# Altium integrated library Microchip Power Mgt CPU-System Supervisor.IntLib: 412 symbols (part 10 of 10)
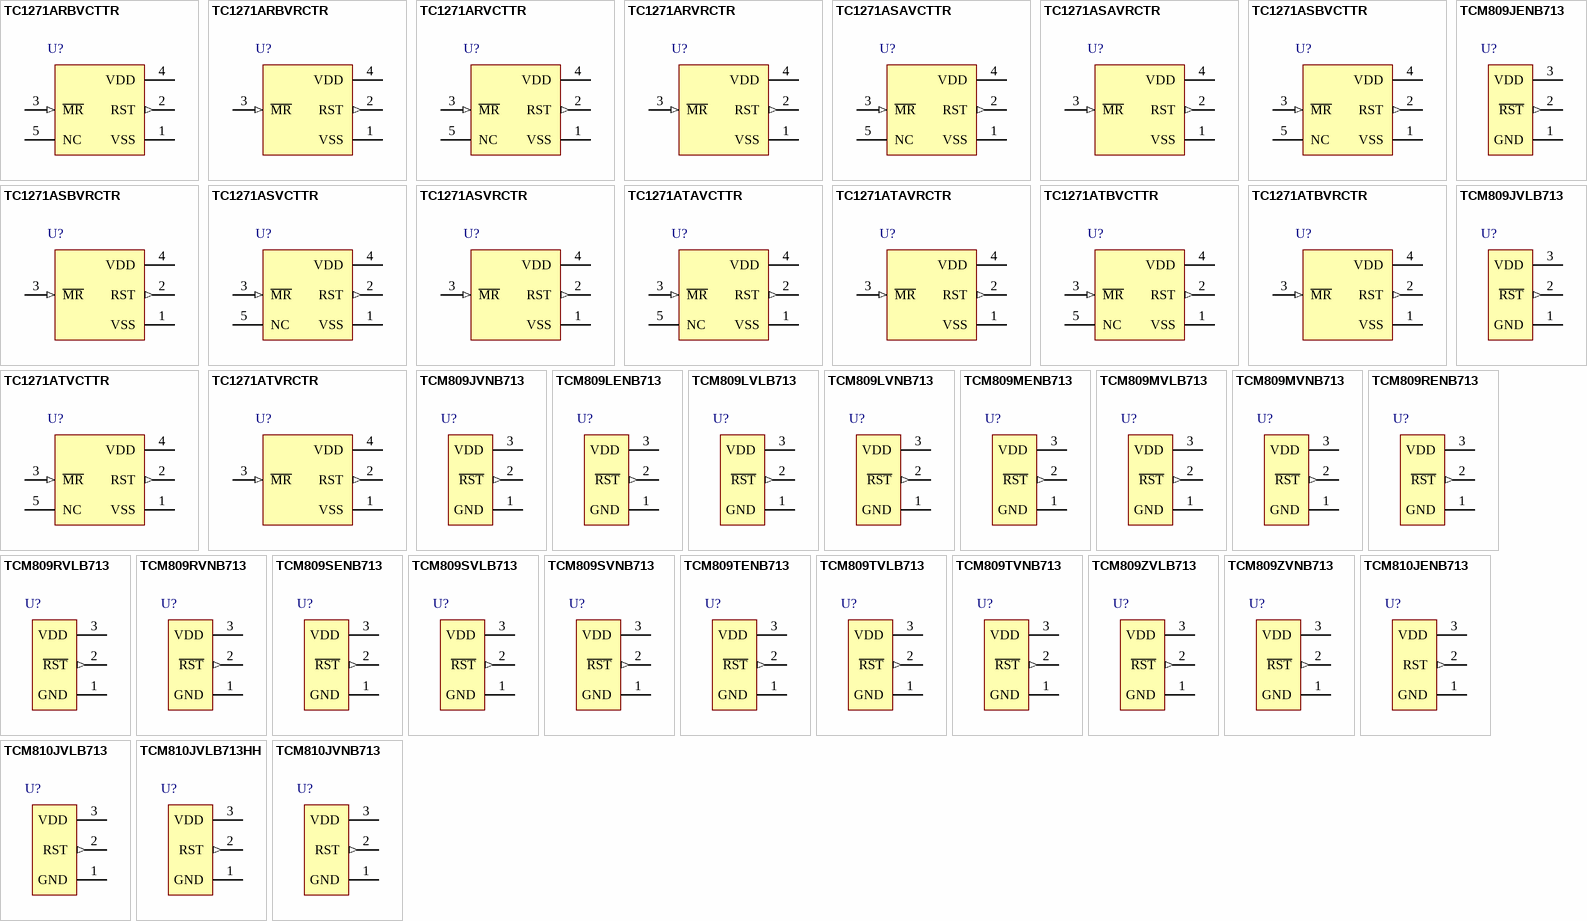
[diagram p19: symbols TC1271ARBVCTTR to TCM810JVNB713]

## TCM809SENB713
designator U?
3-Pin Microcontroller Reset Monitors, 3-Pin SOT-23, Extended Temperature; Published: 29-Jan-2009; DatasheetVersion: revD, Mar-2005; PackageVersion: revBB, Aug-2009; PackageReference: SOT-23-NB3; Publisher: Altium Limited; PackageDescription: 3-Lead Plastic Small Outline Transistor (NB) [SOT-23]; Supplier 1: Digi-Key; Supplier Part Number 1: TCM809SENB713TR-ND; Supplier 2: Digi-Key; Supplier Part Number 2: TCM809SENB713CT-ND; Supplier 3: Farnell; Supplier Part Number 3: 9762760; Code_IPC: SOT23-3; ComponentLink1Description: Datasheet; ComponentLink1URL: http://ww1.microchip.com/downloads/en/DeviceDoc/21661d.pdf; ComponentLink2Description: Packaging Specification; ComponentLink2URL: http://www.microchip.com/stellent/groups/techpub_sg/documents/packagingspec/en012702.pdf; ComponentLink3Description: Microchip.com Home; ComponentLink3URL: http://www.microchip.com/
footprint SOT-23-NB3_N (SOT23, 3-Leads, Body 2.9x1.3mm, Pitch 0.95mm, Lead Span 2.4mm, IPC Medium Density)
footprint SOT-23-NB3_L (SOT23, 3-Leads, Body 2.9x1.3mm, Pitch 0.95mm, Lead Span 2.4mm, IPC High Density)
footprint SOT-23-NB3_M (SOT23, 3-Leads, Body 2.9x1.3mm, Pitch 0.95mm, Lead Span 2.4mm, IPC Low Density)
pins: 1 GND (power), 2 ~{RST} (out), 3 VDD (power)

## TCM809SVLB713
designator U?
3-Pin Microcontroller Reset Monitors, 3-Pin SC-70; Published: 29-Jan-2009; DatasheetVersion: revD, Mar-2005; PackageVersion: revBB, Aug-2009; PackageReference: SC70-LB3; Publisher: Altium Limited; PackageDescription: 3-Lead Plastic Small Outline Transistor (LB) [SC70]; Supplier 1: Digi-Key; Supplier Part Number 1: TCM809SVLB713TR-ND; Supplier 2: Digi-Key; Supplier Part Number 2: TCM809SVLB713CT-ND; Supplier 3: Digi-Key; Supplier Part Number 3: TCM809SVLB713DKR-ND; ComponentLink1Description: Datasheet; ComponentLink1URL: http://ww1.microchip.com/downloads/en/DeviceDoc/21661d.pdf; ComponentLink2Description: Packaging Specification; ComponentLink2URL: http://www.microchip.com/stellent/groups/techpub_sg/documents/packagingspec/en012702.pdf; ComponentLink3Description: Microchip.com Home; ComponentLink3URL: http://www.microchip.com/
footprint SC70-LB3_N (SOT323, 3-Leads, Body 2.0x1.3mm, Pitch 0.65mm, Lead Span 2.1mm, IPC Medium Density)
footprint SC70-LB3_L (SOT323, 3-Leads, Body 2.0x1.3mm, Pitch 0.65mm, Lead Span 2.1mm, IPC High Density)
footprint SC70-LB3_M (SOT323, 3-Leads, Body 2.0x1.3mm, Pitch 0.65mm, Lead Span 2.1mm, IPC Low Density)
pins: 1 GND (power), 2 ~{RST} (out), 3 VDD (power)

## TCM809SVNB713
designator U?
3-Pin Microcontroller Reset Monitors, 3-Pin SOT-23; Published: 29-Jan-2009; DatasheetVersion: revD, Mar-2005; PackageVersion: revBB, Aug-2009; PackageReference: SOT-23-NB3; Publisher: Altium Limited; PackageDescription: 3-Lead Plastic Small Outline Transistor (NB) [SOT-23]; Supplier 1: Digi-Key; Supplier Part Number 1: TCM809SVNB713TR-ND; Supplier 2: Digi-Key; Supplier Part Number 2: TCM809SVNB713CT-ND; Supplier 3: Digi-Key; Supplier Part Number 3: TCM809SVNB713DKR-ND; Code_IPC: SOT23-3; ComponentLink1Description: Datasheet; ComponentLink1URL: http://ww1.microchip.com/downloads/en/DeviceDoc/21661d.pdf; ComponentLink2Description: Packaging Specification; ComponentLink2URL: http://www.microchip.com/stellent/groups/techpub_sg/documents/packagingspec/en012702.pdf; ComponentLink3Description: Microchip.com Home; ComponentLink3URL: http://www.microchip.com/
footprint SOT-23-NB3_N (SOT23, 3-Leads, Body 2.9x1.3mm, Pitch 0.95mm, Lead Span 2.4mm, IPC Medium Density)
footprint SOT-23-NB3_L (SOT23, 3-Leads, Body 2.9x1.3mm, Pitch 0.95mm, Lead Span 2.4mm, IPC High Density)
footprint SOT-23-NB3_M (SOT23, 3-Leads, Body 2.9x1.3mm, Pitch 0.95mm, Lead Span 2.4mm, IPC Low Density)
pins: 1 GND (power), 2 ~{RST} (out), 3 VDD (power)

## TCM809TENB713
designator U?
3-Pin Microcontroller Reset Monitors, 3-Pin SOT-23, Extended Temperature; Published: 29-Jan-2009; DatasheetVersion: revD, Mar-2005; PackageVersion: revBB, Aug-2009; PackageReference: SOT-23-NB3; Publisher: Altium Limited; PackageDescription: 3-Lead Plastic Small Outline Transistor (NB) [SOT-23]; Supplier 1: Digi-Key; Supplier Part Number 1: TCM809TENB713TR-ND; Supplier 2: Digi-Key; Supplier Part Number 2: TCM809TENB713CT-ND; Supplier 3: Farnell; Supplier Part Number 3: 9762779; Code_IPC: SOT23-3; ComponentLink1Description: Datasheet; ComponentLink1URL: http://ww1.microchip.com/downloads/en/DeviceDoc/21661d.pdf; ComponentLink2Description: Packaging Specification; ComponentLink2URL: http://www.microchip.com/stellent/groups/techpub_sg/documents/packagingspec/en012702.pdf; ComponentLink3Description: Microchip.com Home; ComponentLink3URL: http://www.microchip.com/
footprint SOT-23-NB3_N (SOT23, 3-Leads, Body 2.9x1.3mm, Pitch 0.95mm, Lead Span 2.4mm, IPC Medium Density)
footprint SOT-23-NB3_L (SOT23, 3-Leads, Body 2.9x1.3mm, Pitch 0.95mm, Lead Span 2.4mm, IPC High Density)
footprint SOT-23-NB3_M (SOT23, 3-Leads, Body 2.9x1.3mm, Pitch 0.95mm, Lead Span 2.4mm, IPC Low Density)
pins: 1 GND (power), 2 ~{RST} (out), 3 VDD (power)

## TCM809TVLB713
designator U?
3-Pin Microcontroller Reset Monitors, 3-Pin SC-70; Published: 29-Jan-2009; DatasheetVersion: revD, Mar-2005; PackageVersion: revBB, Aug-2009; PackageReference: SC70-LB3; Publisher: Altium Limited; PackageDescription: 3-Lead Plastic Small Outline Transistor (LB) [SC70]; Supplier 1: Digi-Key; Supplier Part Number 1: TCM809TVLB713TR-ND; Supplier 2: Digi-Key; Supplier Part Number 2: TCM809TVLB713CT-ND; Supplier 3: Digi-Key; Supplier Part Number 3: TCM809TVLB713DKR-ND; ComponentLink1Description: Datasheet; ComponentLink1URL: http://ww1.microchip.com/downloads/en/DeviceDoc/21661d.pdf; ComponentLink2Description: Packaging Specification; ComponentLink2URL: http://www.microchip.com/stellent/groups/techpub_sg/documents/packagingspec/en012702.pdf; ComponentLink3Description: Microchip.com Home; ComponentLink3URL: http://www.microchip.com/
footprint SC70-LB3_N (SOT323, 3-Leads, Body 2.0x1.3mm, Pitch 0.65mm, Lead Span 2.1mm, IPC Medium Density)
footprint SC70-LB3_L (SOT323, 3-Leads, Body 2.0x1.3mm, Pitch 0.65mm, Lead Span 2.1mm, IPC High Density)
footprint SC70-LB3_M (SOT323, 3-Leads, Body 2.0x1.3mm, Pitch 0.65mm, Lead Span 2.1mm, IPC Low Density)
pins: 1 GND (power), 2 ~{RST} (out), 3 VDD (power)

## TCM809TVNB713
designator U?
3-Pin Microcontroller Reset Monitors, 3-Pin SOT-23; Published: 29-Jan-2009; DatasheetVersion: revD, Mar-2005; PackageVersion: revBB, Aug-2009; PackageReference: SOT-23-NB3; Publisher: Altium Limited; PackageDescription: 3-Lead Plastic Small Outline Transistor (NB) [SOT-23]; Supplier 1: Digi-Key; Supplier Part Number 1: TCM809TVNB713TR-ND; Supplier 2: Digi-Key; Supplier Part Number 2: TCM809TVNB713CT-ND; Supplier 3: Digi-Key; Supplier Part Number 3: TCM809TVNB713DKR-ND; Code_IPC: SOT23-3; ComponentLink1Description: Datasheet; ComponentLink1URL: http://ww1.microchip.com/downloads/en/DeviceDoc/21661d.pdf; ComponentLink2Description: Packaging Specification; ComponentLink2URL: http://www.microchip.com/stellent/groups/techpub_sg/documents/packagingspec/en012702.pdf; ComponentLink3Description: Microchip.com Home; ComponentLink3URL: http://www.microchip.com/
footprint SOT-23-NB3_N (SOT23, 3-Leads, Body 2.9x1.3mm, Pitch 0.95mm, Lead Span 2.4mm, IPC Medium Density)
footprint SOT-23-NB3_L (SOT23, 3-Leads, Body 2.9x1.3mm, Pitch 0.95mm, Lead Span 2.4mm, IPC High Density)
footprint SOT-23-NB3_M (SOT23, 3-Leads, Body 2.9x1.3mm, Pitch 0.95mm, Lead Span 2.4mm, IPC Low Density)
pins: 1 GND (power), 2 ~{RST} (out), 3 VDD (power)

## TCM809ZVLB713
designator U?
3-Pin Microcontroller Reset Monitors, 3-Pin SC-70; Published: 29-Jan-2009; DatasheetVersion: revD, Mar-2005; PackageVersion: revBB, Aug-2009; PackageReference: SC70-LB3; Publisher: Altium Limited; PackageDescription: 3-Lead Plastic Small Outline Transistor (LB) [SC70]; Supplier 1: Digi-Key; Supplier Part Number 1: TCM809ZVLB713TR-ND; Supplier 2: Digi-Key; Supplier Part Number 2: TCM809ZVLB713CT-ND; Supplier 3: Digi-Key; Supplier Part Number 3: TCM809ZVLB713DKR-ND; Supplier 4: Farnell; Supplier Part Number 4: 9762787; ComponentLink1Description: Datasheet; ComponentLink1URL: http://ww1.microchip.com/downloads/en/DeviceDoc/21661d.pdf; ComponentLink2Description: Packaging Specification; ComponentLink2URL: http://www.microchip.com/stellent/groups/techpub_sg/documents/packagingspec/en012702.pdf; ComponentLink3Description: Microchip.com Home; ComponentLink3URL: http://www.microchip.com/
footprint SC70-LB3_N (SOT323, 3-Leads, Body 2.0x1.3mm, Pitch 0.65mm, Lead Span 2.1mm, IPC Medium Density)
footprint SC70-LB3_L (SOT323, 3-Leads, Body 2.0x1.3mm, Pitch 0.65mm, Lead Span 2.1mm, IPC High Density)
footprint SC70-LB3_M (SOT323, 3-Leads, Body 2.0x1.3mm, Pitch 0.65mm, Lead Span 2.1mm, IPC Low Density)
pins: 1 GND (power), 2 ~{RST} (out), 3 VDD (power)

## TCM809ZVNB713
designator U?
3-Pin Microcontroller Reset Monitors, 3-Pin SOT-23; Published: 29-Jan-2009; DatasheetVersion: revD, Mar-2005; PackageVersion: revBB, Aug-2009; PackageReference: SOT-23-NB3; Publisher: Altium Limited; PackageDescription: 3-Lead Plastic Small Outline Transistor (NB) [SOT-23]; Supplier 1: Digi-Key; Supplier Part Number 1: TCM809ZVNB713TR-ND; Supplier 2: Digi-Key; Supplier Part Number 2: TCM809ZVNB713CT-ND; Supplier 3: Digi-Key; Supplier Part Number 3: TCM809ZVNB713DKR-ND; Code_IPC: SOT23-3; ComponentLink1Description: Datasheet; ComponentLink1URL: http://ww1.microchip.com/downloads/en/DeviceDoc/21661d.pdf; ComponentLink2Description: Packaging Specification; ComponentLink2URL: http://www.microchip.com/stellent/groups/techpub_sg/documents/packagingspec/en012702.pdf; ComponentLink3Description: Microchip.com Home; ComponentLink3URL: http://www.microchip.com/
footprint SOT-23-NB3_N (SOT23, 3-Leads, Body 2.9x1.3mm, Pitch 0.95mm, Lead Span 2.4mm, IPC Medium Density)
footprint SOT-23-NB3_L (SOT23, 3-Leads, Body 2.9x1.3mm, Pitch 0.95mm, Lead Span 2.4mm, IPC High Density)
footprint SOT-23-NB3_M (SOT23, 3-Leads, Body 2.9x1.3mm, Pitch 0.95mm, Lead Span 2.4mm, IPC Low Density)
pins: 1 GND (power), 2 ~{RST} (out), 3 VDD (power)

## TCM810JENB713
designator U?
3-Pin Microcontroller Reset Monitors, 3-Pin SOT-23, Extended Temperature; Published: 29-Jan-2009; DatasheetVersion: revD, Mar-2005; PackageVersion: revBB, Aug-2009; PackageReference: SOT-23-NB3; Publisher: Altium Limited; PackageDescription: 3-Lead Plastic Small Outline Transistor (NB) [SOT-23]; Supplier 1: Digi-Key; Supplier Part Number 1: TCM810JENB713-ND; Code_IPC: SOT23-3; ComponentLink1Description: Datasheet; ComponentLink1URL: http://ww1.microchip.com/downloads/en/DeviceDoc/21661d.pdf; ComponentLink2Description: Packaging Specification; ComponentLink2URL: http://www.microchip.com/stellent/groups/techpub_sg/documents/packagingspec/en012702.pdf; ComponentLink3Description: Microchip.com Home; ComponentLink3URL: http://www.microchip.com/
footprint SOT-23-NB3_N (SOT23, 3-Leads, Body 2.9x1.3mm, Pitch 0.95mm, Lead Span 2.4mm, IPC Medium Density)
footprint SOT-23-NB3_L (SOT23, 3-Leads, Body 2.9x1.3mm, Pitch 0.95mm, Lead Span 2.4mm, IPC High Density)
footprint SOT-23-NB3_M (SOT23, 3-Leads, Body 2.9x1.3mm, Pitch 0.95mm, Lead Span 2.4mm, IPC Low Density)
pins: 1 GND (power), 2 RST (out), 3 VDD (power)

## TCM810JVLB713
designator U?
3-Pin Microcontroller Reset Monitors, 3-Pin SC-70; Published: 29-Jan-2009; DatasheetVersion: revD, Mar-2005; PackageVersion: revBB, Aug-2009; PackageReference: SC70-LB3; Publisher: Altium Limited; PackageDescription: 3-Lead Plastic Small Outline Transistor (LB) [SC70]; Supplier 1: Digi-Key; Supplier Part Number 1: TCM810JVLB713-ND; ComponentLink1Description: Datasheet; ComponentLink1URL: http://ww1.microchip.com/downloads/en/DeviceDoc/21661d.pdf; ComponentLink2Description: Packaging Specification; ComponentLink2URL: http://www.microchip.com/stellent/groups/techpub_sg/documents/packagingspec/en012702.pdf; ComponentLink3Description: Microchip.com Home; ComponentLink3URL: http://www.microchip.com/
footprint SC70-LB3_N (SOT323, 3-Leads, Body 2.0x1.3mm, Pitch 0.65mm, Lead Span 2.1mm, IPC Medium Density)
footprint SC70-LB3_L (SOT323, 3-Leads, Body 2.0x1.3mm, Pitch 0.65mm, Lead Span 2.1mm, IPC High Density)
footprint SC70-LB3_M (SOT323, 3-Leads, Body 2.0x1.3mm, Pitch 0.65mm, Lead Span 2.1mm, IPC Low Density)
pins: 1 GND (power), 2 RST (out), 3 VDD (power)

## TCM810JVLB713HH
designator U?
3-Pin Microcontroller Reset Monitors, 3-Pin SC-70; Published: 29-Jan-2009; DatasheetVersion: revD, Mar-2005; PackageVersion: revBB, Aug-2009; PackageReference: SC70-LB3; Publisher: Altium Limited; PackageDescription: 3-Lead Plastic Small Outline Transistor (LB) [SC70]; ComponentLink1Description: Datasheet; ComponentLink1URL: http://ww1.microchip.com/downloads/en/DeviceDoc/21661d.pdf; ComponentLink2Description: Packaging Specification; ComponentLink2URL: http://www.microchip.com/stellent/groups/techpub_sg/documents/packagingspec/en012702.pdf; ComponentLink3Description: Microchip.com Home; ComponentLink3URL: http://www.microchip.com/
footprint SC70-LB3_N (SOT323, 3-Leads, Body 2.0x1.3mm, Pitch 0.65mm, Lead Span 2.1mm, IPC Medium Density)
footprint SC70-LB3_L (SOT323, 3-Leads, Body 2.0x1.3mm, Pitch 0.65mm, Lead Span 2.1mm, IPC High Density)
footprint SC70-LB3_M (SOT323, 3-Leads, Body 2.0x1.3mm, Pitch 0.65mm, Lead Span 2.1mm, IPC Low Density)
pins: 1 GND (power), 2 RST (out), 3 VDD (power)

## TCM810JVNB713
designator U?
3-Pin Microcontroller Reset Monitors, 3-Pin SOT-23; Published: 29-Jan-2009; DatasheetVersion: revD, Mar-2005; PackageVersion: revBB, Aug-2009; PackageReference: SOT-23-NB3; Publisher: Altium Limited; PackageDescription: 3-Lead Plastic Small Outline Transistor (NB) [SOT-23]; Supplier 1: Digi-Key; Supplier Part Number 1: TCM810JVNB713TR-ND; Supplier 2: Digi-Key; Supplier Part Number 2: TCM810JVNB713CT-ND; Supplier 3: Digi-Key; Supplier Part Number 3: TCM810JVNB713DKR-ND; Code_IPC: SOT23-3; ComponentLink1Description: Datasheet; ComponentLink1URL: http://ww1.microchip.com/downloads/en/DeviceDoc/21661d.pdf; ComponentLink2Description: Packaging Specification; ComponentLink2URL: http://www.microchip.com/stellent/groups/techpub_sg/documents/packagingspec/en012702.pdf; ComponentLink3Description: Microchip.com Home; ComponentLink3URL: http://www.microchip.com/
footprint SOT-23-NB3_N (SOT23, 3-Leads, Body 2.9x1.3mm, Pitch 0.95mm, Lead Span 2.4mm, IPC Medium Density)
footprint SOT-23-NB3_L (SOT23, 3-Leads, Body 2.9x1.3mm, Pitch 0.95mm, Lead Span 2.4mm, IPC High Density)
footprint SOT-23-NB3_M (SOT23, 3-Leads, Body 2.9x1.3mm, Pitch 0.95mm, Lead Span 2.4mm, IPC Low Density)
pins: 1 GND (power), 2 RST (out), 3 VDD (power)

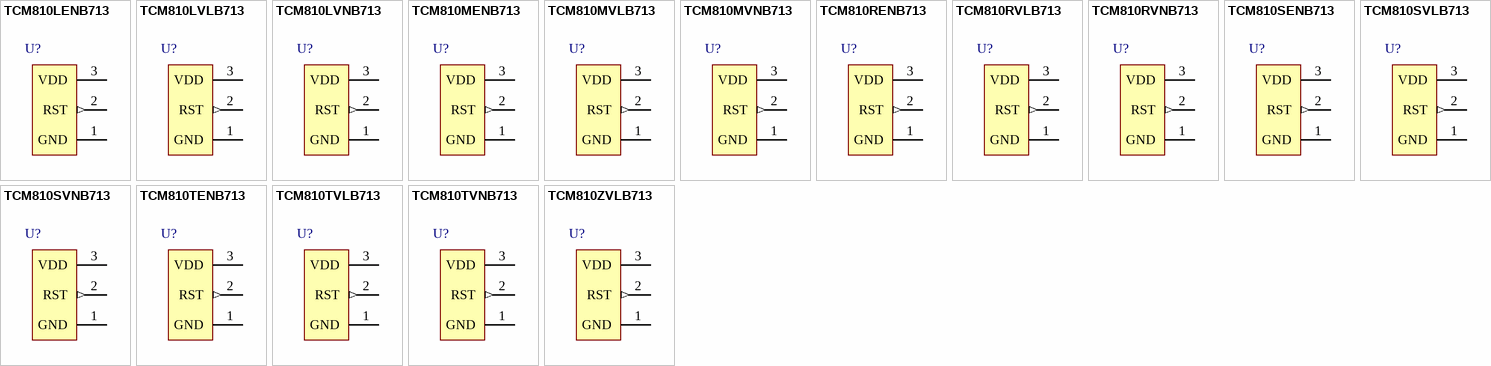
[diagram p10: symbols TCM810LENB713 to TCM810ZVLB713]

## TCM810LENB713
designator U?
3-Pin Microcontroller Reset Monitors, 3-Pin SOT-23, Extended Temperature; Published: 29-Jan-2009; DatasheetVersion: revD, Mar-2005; PackageVersion: revBB, Aug-2009; PackageReference: SOT-23-NB3; Publisher: Altium Limited; PackageDescription: 3-Lead Plastic Small Outline Transistor (NB) [SOT-23]; Supplier 1: Digi-Key; Supplier Part Number 1: TCM810LENB713TR-ND; Supplier 2: Digi-Key; Supplier Part Number 2: TCM810LENB713CT-ND; Supplier 3: Digi-Key; Supplier Part Number 3: TCM810LENB713DKR-ND; Code_IPC: SOT23-3; ComponentLink1Description: Datasheet; ComponentLink1URL: http://ww1.microchip.com/downloads/en/DeviceDoc/21661d.pdf; ComponentLink2Description: Packaging Specification; ComponentLink2URL: http://www.microchip.com/stellent/groups/techpub_sg/documents/packagingspec/en012702.pdf; ComponentLink3Description: Microchip.com Home; ComponentLink3URL: http://www.microchip.com/
footprint SOT-23-NB3_N (SOT23, 3-Leads, Body 2.9x1.3mm, Pitch 0.95mm, Lead Span 2.4mm, IPC Medium Density)
footprint SOT-23-NB3_L (SOT23, 3-Leads, Body 2.9x1.3mm, Pitch 0.95mm, Lead Span 2.4mm, IPC High Density)
footprint SOT-23-NB3_M (SOT23, 3-Leads, Body 2.9x1.3mm, Pitch 0.95mm, Lead Span 2.4mm, IPC Low Density)
pins: 1 GND (power), 2 RST (out), 3 VDD (power)

## TCM810LVLB713
designator U?
3-Pin Microcontroller Reset Monitors, 3-Pin SC-70; Published: 29-Jan-2009; DatasheetVersion: revD, Mar-2005; PackageVersion: revBB, Aug-2009; PackageReference: SC70-LB3; Publisher: Altium Limited; PackageDescription: 3-Lead Plastic Small Outline Transistor (LB) [SC70]; Supplier 1: Digi-Key; Supplier Part Number 1: TCM810LVLB713TR-ND; Supplier 2: Digi-Key; Supplier Part Number 2: TCM810LVLB713CT-ND; Supplier 3: Digi-Key; Supplier Part Number 3: TCM810LVLB713DKR-ND; ComponentLink1Description: Datasheet; ComponentLink1URL: http://ww1.microchip.com/downloads/en/DeviceDoc/21661d.pdf; ComponentLink2Description: Packaging Specification; ComponentLink2URL: http://www.microchip.com/stellent/groups/techpub_sg/documents/packagingspec/en012702.pdf; ComponentLink3Description: Microchip.com Home; ComponentLink3URL: http://www.microchip.com/
footprint SC70-LB3_N (SOT323, 3-Leads, Body 2.0x1.3mm, Pitch 0.65mm, Lead Span 2.1mm, IPC Medium Density)
footprint SC70-LB3_L (SOT323, 3-Leads, Body 2.0x1.3mm, Pitch 0.65mm, Lead Span 2.1mm, IPC High Density)
footprint SC70-LB3_M (SOT323, 3-Leads, Body 2.0x1.3mm, Pitch 0.65mm, Lead Span 2.1mm, IPC Low Density)
pins: 1 GND (power), 2 RST (out), 3 VDD (power)

## TCM810LVNB713
designator U?
3-Pin Microcontroller Reset Monitors, 3-Pin SOT-23; Published: 29-Jan-2009; DatasheetVersion: revD, Mar-2005; PackageVersion: revBB, Aug-2009; PackageReference: SOT-23-NB3; Publisher: Altium Limited; PackageDescription: 3-Lead Plastic Small Outline Transistor (NB) [SOT-23]; Supplier 1: Digi-Key; Supplier Part Number 1: TCM810LVNB713TR-ND; Supplier 2: Digi-Key; Supplier Part Number 2: TCM810LVNB713CT-ND; Supplier 3: Digi-Key; Supplier Part Number 3: TCM810LVNB713DKR-ND; Code_IPC: SOT23-3; ComponentLink1Description: Datasheet; ComponentLink1URL: http://ww1.microchip.com/downloads/en/DeviceDoc/21661d.pdf; ComponentLink2Description: Packaging Specification; ComponentLink2URL: http://www.microchip.com/stellent/groups/techpub_sg/documents/packagingspec/en012702.pdf; ComponentLink3Description: Microchip.com Home; ComponentLink3URL: http://www.microchip.com/
footprint SOT-23-NB3_N (SOT23, 3-Leads, Body 2.9x1.3mm, Pitch 0.95mm, Lead Span 2.4mm, IPC Medium Density)
footprint SOT-23-NB3_L (SOT23, 3-Leads, Body 2.9x1.3mm, Pitch 0.95mm, Lead Span 2.4mm, IPC High Density)
footprint SOT-23-NB3_M (SOT23, 3-Leads, Body 2.9x1.3mm, Pitch 0.95mm, Lead Span 2.4mm, IPC Low Density)
pins: 1 GND (power), 2 RST (out), 3 VDD (power)

## TCM810MENB713
designator U?
3-Pin Microcontroller Reset Monitors, 3-Pin SOT-23, Extended Temperature; Published: 29-Jan-2009; DatasheetVersion: revD, Mar-2005; PackageVersion: revBB, Aug-2009; PackageReference: SOT-23-NB3; Publisher: Altium Limited; PackageDescription: 3-Lead Plastic Small Outline Transistor (NB) [SOT-23]; Supplier 1: Digi-Key; Supplier Part Number 1: TCM810MENB713TR-ND; Supplier 2: Digi-Key; Supplier Part Number 2: TCM810MENB713CT-ND; Code_IPC: SOT23-3; ComponentLink1Description: Datasheet; ComponentLink1URL: http://ww1.microchip.com/downloads/en/DeviceDoc/21661d.pdf; ComponentLink2Description: Packaging Specification; ComponentLink2URL: http://www.microchip.com/stellent/groups/techpub_sg/documents/packagingspec/en012702.pdf; ComponentLink3Description: Microchip.com Home; ComponentLink3URL: http://www.microchip.com/
footprint SOT-23-NB3_N (SOT23, 3-Leads, Body 2.9x1.3mm, Pitch 0.95mm, Lead Span 2.4mm, IPC Medium Density)
footprint SOT-23-NB3_L (SOT23, 3-Leads, Body 2.9x1.3mm, Pitch 0.95mm, Lead Span 2.4mm, IPC High Density)
footprint SOT-23-NB3_M (SOT23, 3-Leads, Body 2.9x1.3mm, Pitch 0.95mm, Lead Span 2.4mm, IPC Low Density)
pins: 1 GND (power), 2 RST (out), 3 VDD (power)

## TCM810MVLB713
designator U?
3-Pin Microcontroller Reset Monitors, 3-Pin SC-70; Published: 29-Jan-2009; DatasheetVersion: revD, Mar-2005; PackageVersion: revBB, Aug-2009; PackageReference: SC70-LB3; Publisher: Altium Limited; PackageDescription: 3-Lead Plastic Small Outline Transistor (LB) [SC70]; Supplier 1: Digi-Key; Supplier Part Number 1: TCM810MVLB713TR-ND; Supplier 2: Digi-Key; Supplier Part Number 2: TCM810MVLB713CT-ND; Supplier 3: Digi-Key; Supplier Part Number 3: TCM810MVLB713DKR-ND; ComponentLink1Description: Datasheet; ComponentLink1URL: http://ww1.microchip.com/downloads/en/DeviceDoc/21661d.pdf; ComponentLink2Description: Packaging Specification; ComponentLink2URL: http://www.microchip.com/stellent/groups/techpub_sg/documents/packagingspec/en012702.pdf; ComponentLink3Description: Microchip.com Home; ComponentLink3URL: http://www.microchip.com/
footprint SC70-LB3_N (SOT323, 3-Leads, Body 2.0x1.3mm, Pitch 0.65mm, Lead Span 2.1mm, IPC Medium Density)
footprint SC70-LB3_L (SOT323, 3-Leads, Body 2.0x1.3mm, Pitch 0.65mm, Lead Span 2.1mm, IPC High Density)
footprint SC70-LB3_M (SOT323, 3-Leads, Body 2.0x1.3mm, Pitch 0.65mm, Lead Span 2.1mm, IPC Low Density)
pins: 1 GND (power), 2 RST (out), 3 VDD (power)

## TCM810MVNB713
designator U?
3-Pin Microcontroller Reset Monitors, 3-Pin SOT-23; Published: 29-Jan-2009; DatasheetVersion: revD, Mar-2005; PackageVersion: revBB, Aug-2009; PackageReference: SOT-23-NB3; Publisher: Altium Limited; PackageDescription: 3-Lead Plastic Small Outline Transistor (NB) [SOT-23]; Supplier 1: Digi-Key; Supplier Part Number 1: TCM810MVNB713TR-ND; Supplier 2: Digi-Key; Supplier Part Number 2: TCM810MVNB713CT-ND; Supplier 3: Digi-Key; Supplier Part Number 3: TCM810MVNB713DKR-ND; Code_IPC: SOT23-3; ComponentLink1Description: Datasheet; ComponentLink1URL: http://ww1.microchip.com/downloads/en/DeviceDoc/21661d.pdf; ComponentLink2Description: Packaging Specification; ComponentLink2URL: http://www.microchip.com/stellent/groups/techpub_sg/documents/packagingspec/en012702.pdf; ComponentLink3Description: Microchip.com Home; ComponentLink3URL: http://www.microchip.com/
footprint SOT-23-NB3_N (SOT23, 3-Leads, Body 2.9x1.3mm, Pitch 0.95mm, Lead Span 2.4mm, IPC Medium Density)
footprint SOT-23-NB3_L (SOT23, 3-Leads, Body 2.9x1.3mm, Pitch 0.95mm, Lead Span 2.4mm, IPC High Density)
footprint SOT-23-NB3_M (SOT23, 3-Leads, Body 2.9x1.3mm, Pitch 0.95mm, Lead Span 2.4mm, IPC Low Density)
pins: 1 GND (power), 2 RST (out), 3 VDD (power)

## TCM810RENB713
designator U?
3-Pin Microcontroller Reset Monitors, 3-Pin SOT-23, Extended Temperature; Published: 29-Jan-2009; DatasheetVersion: revD, Mar-2005; PackageVersion: revBB, Aug-2009; PackageReference: SOT-23-NB3; Publisher: Altium Limited; PackageDescription: 3-Lead Plastic Small Outline Transistor (NB) [SOT-23]; Supplier 1: Digi-Key; Supplier Part Number 1: TCM810RENB713TR-ND; Supplier 2: Digi-Key; Supplier Part Number 2: TCM810RENB713CT-ND; Supplier 3: Digi-Key; Supplier Part Number 3: TCM810RENB713DKR-ND; Code_IPC: SOT23-3; ComponentLink1Description: Datasheet; ComponentLink1URL: http://ww1.microchip.com/downloads/en/DeviceDoc/21661d.pdf; ComponentLink2Description: Packaging Specification; ComponentLink2URL: http://www.microchip.com/stellent/groups/techpub_sg/documents/packagingspec/en012702.pdf; ComponentLink3Description: Microchip.com Home; ComponentLink3URL: http://www.microchip.com/
footprint SOT-23-NB3_N (SOT23, 3-Leads, Body 2.9x1.3mm, Pitch 0.95mm, Lead Span 2.4mm, IPC Medium Density)
footprint SOT-23-NB3_L (SOT23, 3-Leads, Body 2.9x1.3mm, Pitch 0.95mm, Lead Span 2.4mm, IPC High Density)
footprint SOT-23-NB3_M (SOT23, 3-Leads, Body 2.9x1.3mm, Pitch 0.95mm, Lead Span 2.4mm, IPC Low Density)
pins: 1 GND (power), 2 RST (out), 3 VDD (power)

## TCM810RVLB713
designator U?
3-Pin Microcontroller Reset Monitors, 3-Pin SC-70; Published: 29-Jan-2009; DatasheetVersion: revD, Mar-2005; PackageVersion: revBB, Aug-2009; PackageReference: SC70-LB3; Publisher: Altium Limited; PackageDescription: 3-Lead Plastic Small Outline Transistor (LB) [SC70]; Supplier 1: Digi-Key; Supplier Part Number 1: TCM810RVLB713TR-ND; Supplier 2: Digi-Key; Supplier Part Number 2: TCM810RVLB713CT-ND; Supplier 3: Digi-Key; Supplier Part Number 3: TCM810RVLB713DKR-ND; ComponentLink1Description: Datasheet; ComponentLink1URL: http://ww1.microchip.com/downloads/en/DeviceDoc/21661d.pdf; ComponentLink2Description: Packaging Specification; ComponentLink2URL: http://www.microchip.com/stellent/groups/techpub_sg/documents/packagingspec/en012702.pdf; ComponentLink3Description: Microchip.com Home; ComponentLink3URL: http://www.microchip.com/
footprint SC70-LB3_N (SOT323, 3-Leads, Body 2.0x1.3mm, Pitch 0.65mm, Lead Span 2.1mm, IPC Medium Density)
footprint SC70-LB3_L (SOT323, 3-Leads, Body 2.0x1.3mm, Pitch 0.65mm, Lead Span 2.1mm, IPC High Density)
footprint SC70-LB3_M (SOT323, 3-Leads, Body 2.0x1.3mm, Pitch 0.65mm, Lead Span 2.1mm, IPC Low Density)
pins: 1 GND (power), 2 RST (out), 3 VDD (power)

## TCM810RVNB713
designator U?
3-Pin Microcontroller Reset Monitors, 3-Pin SOT-23; Published: 29-Jan-2009; DatasheetVersion: revD, Mar-2005; PackageVersion: revBB, Aug-2009; PackageReference: SOT-23-NB3; Publisher: Altium Limited; PackageDescription: 3-Lead Plastic Small Outline Transistor (NB) [SOT-23]; Supplier 1: Digi-Key; Supplier Part Number 1: TCM810RVNB713TR-ND; Supplier 2: Digi-Key; Supplier Part Number 2: TCM810RVNB713CT-ND; Supplier 3: Digi-Key; Supplier Part Number 3: TCM810RVNB713DKR-ND; Code_IPC: SOT23-3; ComponentLink1Description: Datasheet; ComponentLink1URL: http://ww1.microchip.com/downloads/en/DeviceDoc/21661d.pdf; ComponentLink2Description: Packaging Specification; ComponentLink2URL: http://www.microchip.com/stellent/groups/techpub_sg/documents/packagingspec/en012702.pdf; ComponentLink3Description: Microchip.com Home; ComponentLink3URL: http://www.microchip.com/
footprint SOT-23-NB3_N (SOT23, 3-Leads, Body 2.9x1.3mm, Pitch 0.95mm, Lead Span 2.4mm, IPC Medium Density)
footprint SOT-23-NB3_L (SOT23, 3-Leads, Body 2.9x1.3mm, Pitch 0.95mm, Lead Span 2.4mm, IPC High Density)
footprint SOT-23-NB3_M (SOT23, 3-Leads, Body 2.9x1.3mm, Pitch 0.95mm, Lead Span 2.4mm, IPC Low Density)
pins: 1 GND (power), 2 RST (out), 3 VDD (power)

## TCM810SENB713
designator U?
3-Pin Microcontroller Reset Monitors, 3-Pin SOT-23, Extended Temperature; Published: 29-Jan-2009; DatasheetVersion: revD, Mar-2005; PackageVersion: revBB, Aug-2009; PackageReference: SOT-23-NB3; Publisher: Altium Limited; PackageDescription: 3-Lead Plastic Small Outline Transistor (NB) [SOT-23]; Supplier 1: Digi-Key; Supplier Part Number 1: TCM810SENB713TR-ND; Supplier 2: Digi-Key; Supplier Part Number 2: TCM810SENB713CT-ND; Supplier 3: Farnell; Supplier Part Number 3: 1261520; Code_IPC: SOT23-3; ComponentLink1Description: Datasheet; ComponentLink1URL: http://ww1.microchip.com/downloads/en/DeviceDoc/21661d.pdf; ComponentLink2Description: Packaging Specification; ComponentLink2URL: http://www.microchip.com/stellent/groups/techpub_sg/documents/packagingspec/en012702.pdf; ComponentLink3Description: Microchip.com Home; ComponentLink3URL: http://www.microchip.com/
footprint SOT-23-NB3_N (SOT23, 3-Leads, Body 2.9x1.3mm, Pitch 0.95mm, Lead Span 2.4mm, IPC Medium Density)
footprint SOT-23-NB3_L (SOT23, 3-Leads, Body 2.9x1.3mm, Pitch 0.95mm, Lead Span 2.4mm, IPC High Density)
footprint SOT-23-NB3_M (SOT23, 3-Leads, Body 2.9x1.3mm, Pitch 0.95mm, Lead Span 2.4mm, IPC Low Density)
pins: 1 GND (power), 2 RST (out), 3 VDD (power)

## TCM810SVLB713
designator U?
3-Pin Microcontroller Reset Monitors, 3-Pin SC-70; Published: 29-Jan-2009; DatasheetVersion: revD, Mar-2005; PackageVersion: revBB, Aug-2009; PackageReference: SC70-LB3; Publisher: Altium Limited; PackageDescription: 3-Lead Plastic Small Outline Transistor (LB) [SC70]; Supplier 1: Digi-Key; Supplier Part Number 1: TCM810SVLB713TR-ND; Supplier 2: Digi-Key; Supplier Part Number 2: TCM810SVLB713CT-ND; Supplier 3: Digi-Key; Supplier Part Number 3: TCM810SVLB713DKR-ND; ComponentLink1Description: Datasheet; ComponentLink1URL: http://ww1.microchip.com/downloads/en/DeviceDoc/21661d.pdf; ComponentLink2Description: Packaging Specification; ComponentLink2URL: http://www.microchip.com/stellent/groups/techpub_sg/documents/packagingspec/en012702.pdf; ComponentLink3Description: Microchip.com Home; ComponentLink3URL: http://www.microchip.com/
footprint SC70-LB3_N (SOT323, 3-Leads, Body 2.0x1.3mm, Pitch 0.65mm, Lead Span 2.1mm, IPC Medium Density)
footprint SC70-LB3_L (SOT323, 3-Leads, Body 2.0x1.3mm, Pitch 0.65mm, Lead Span 2.1mm, IPC High Density)
footprint SC70-LB3_M (SOT323, 3-Leads, Body 2.0x1.3mm, Pitch 0.65mm, Lead Span 2.1mm, IPC Low Density)
pins: 1 GND (power), 2 RST (out), 3 VDD (power)

## TCM810SVNB713
designator U?
3-Pin Microcontroller Reset Monitors, 3-Pin SOT-23; Published: 29-Jan-2009; DatasheetVersion: revD, Mar-2005; PackageVersion: revBB, Aug-2009; PackageReference: SOT-23-NB3; Publisher: Altium Limited; PackageDescription: 3-Lead Plastic Small Outline Transistor (NB) [SOT-23]; Supplier 1: Digi-Key; Supplier Part Number 1: TCM810SVNB713TR-ND; Supplier 2: Digi-Key; Supplier Part Number 2: TCM810SVNB713CT-ND; Supplier 3: Digi-Key; Supplier Part Number 3: TCM810SVNB713DKR-ND; Code_IPC: SOT23-3; ComponentLink1Description: Datasheet; ComponentLink1URL: http://ww1.microchip.com/downloads/en/DeviceDoc/21661d.pdf; ComponentLink2Description: Packaging Specification; ComponentLink2URL: http://www.microchip.com/stellent/groups/techpub_sg/documents/packagingspec/en012702.pdf; ComponentLink3Description: Microchip.com Home; ComponentLink3URL: http://www.microchip.com/
footprint SOT-23-NB3_N (SOT23, 3-Leads, Body 2.9x1.3mm, Pitch 0.95mm, Lead Span 2.4mm, IPC Medium Density)
footprint SOT-23-NB3_L (SOT23, 3-Leads, Body 2.9x1.3mm, Pitch 0.95mm, Lead Span 2.4mm, IPC High Density)
footprint SOT-23-NB3_M (SOT23, 3-Leads, Body 2.9x1.3mm, Pitch 0.95mm, Lead Span 2.4mm, IPC Low Density)
pins: 1 GND (power), 2 RST (out), 3 VDD (power)

## TCM810TENB713
designator U?
3-Pin Microcontroller Reset Monitors, 3-Pin SOT-23, Extended Temperature; Published: 29-Jan-2009; DatasheetVersion: revD, Mar-2005; PackageVersion: revBB, Aug-2009; PackageReference: SOT-23-NB3; Publisher: Altium Limited; PackageDescription: 3-Lead Plastic Small Outline Transistor (NB) [SOT-23]; Supplier 1: Digi-Key; Supplier Part Number 1: TCM810TENB713TR-ND; Supplier 2: Digi-Key; Supplier Part Number 2: TCM810TENB713CT-ND; Code_IPC: SOT23-3; ComponentLink1Description: Datasheet; ComponentLink1URL: http://ww1.microchip.com/downloads/en/DeviceDoc/21661d.pdf; ComponentLink2Description: Packaging Specification; ComponentLink2URL: http://www.microchip.com/stellent/groups/techpub_sg/documents/packagingspec/en012702.pdf; ComponentLink3Description: Microchip.com Home; ComponentLink3URL: http://www.microchip.com/
footprint SOT-23-NB3_N (SOT23, 3-Leads, Body 2.9x1.3mm, Pitch 0.95mm, Lead Span 2.4mm, IPC Medium Density)
footprint SOT-23-NB3_L (SOT23, 3-Leads, Body 2.9x1.3mm, Pitch 0.95mm, Lead Span 2.4mm, IPC High Density)
footprint SOT-23-NB3_M (SOT23, 3-Leads, Body 2.9x1.3mm, Pitch 0.95mm, Lead Span 2.4mm, IPC Low Density)
pins: 1 GND (power), 2 RST (out), 3 VDD (power)

## TCM810TVLB713
designator U?
3-Pin Microcontroller Reset Monitors, 3-Pin SC-70; Published: 29-Jan-2009; DatasheetVersion: revD, Mar-2005; PackageVersion: revBB, Aug-2009; PackageReference: SC70-LB3; Publisher: Altium Limited; PackageDescription: 3-Lead Plastic Small Outline Transistor (LB) [SC70]; Supplier 1: Digi-Key; Supplier Part Number 1: TCM810TVLB713TR-ND; Supplier 2: Digi-Key; Supplier Part Number 2: TCM810TVLB713CT-ND; Supplier 3: Digi-Key; Supplier Part Number 3: TCM810TVLB713DKR-ND; ComponentLink1Description: Datasheet; ComponentLink1URL: http://ww1.microchip.com/downloads/en/DeviceDoc/21661d.pdf; ComponentLink2Description: Packaging Specification; ComponentLink2URL: http://www.microchip.com/stellent/groups/techpub_sg/documents/packagingspec/en012702.pdf; ComponentLink3Description: Microchip.com Home; ComponentLink3URL: http://www.microchip.com/
footprint SC70-LB3_N (SOT323, 3-Leads, Body 2.0x1.3mm, Pitch 0.65mm, Lead Span 2.1mm, IPC Medium Density)
footprint SC70-LB3_L (SOT323, 3-Leads, Body 2.0x1.3mm, Pitch 0.65mm, Lead Span 2.1mm, IPC High Density)
footprint SC70-LB3_M (SOT323, 3-Leads, Body 2.0x1.3mm, Pitch 0.65mm, Lead Span 2.1mm, IPC Low Density)
pins: 1 GND (power), 2 RST (out), 3 VDD (power)

## TCM810TVNB713
designator U?
3-Pin Microcontroller Reset Monitors, 3-Pin SOT-23; Published: 29-Jan-2009; DatasheetVersion: revD, Mar-2005; PackageVersion: revBB, Aug-2009; PackageReference: SOT-23-NB3; Publisher: Altium Limited; PackageDescription: 3-Lead Plastic Small Outline Transistor (NB) [SOT-23]; Supplier 1: Digi-Key; Supplier Part Number 1: TCM810TVNB713TR-ND; Supplier 2: Digi-Key; Supplier Part Number 2: TCM810TVNB713CT-ND; Supplier 3: Digi-Key; Supplier Part Number 3: TCM810TVNB713DKR-ND; Code_IPC: SOT23-3; ComponentLink1Description: Datasheet; ComponentLink1URL: http://ww1.microchip.com/downloads/en/DeviceDoc/21661d.pdf; ComponentLink2Description: Packaging Specification; ComponentLink2URL: http://www.microchip.com/stellent/groups/techpub_sg/documents/packagingspec/en012702.pdf; ComponentLink3Description: Microchip.com Home; ComponentLink3URL: http://www.microchip.com/
footprint SOT-23-NB3_N (SOT23, 3-Leads, Body 2.9x1.3mm, Pitch 0.95mm, Lead Span 2.4mm, IPC Medium Density)
footprint SOT-23-NB3_L (SOT23, 3-Leads, Body 2.9x1.3mm, Pitch 0.95mm, Lead Span 2.4mm, IPC High Density)
footprint SOT-23-NB3_M (SOT23, 3-Leads, Body 2.9x1.3mm, Pitch 0.95mm, Lead Span 2.4mm, IPC Low Density)
pins: 1 GND (power), 2 RST (out), 3 VDD (power)

## TCM810ZVLB713
designator U?
3-Pin Microcontroller Reset Monitors, 3-Pin SC-70; Published: 29-Jan-2009; DatasheetVersion: revD, Mar-2005; PackageVersion: revBB, Aug-2009; PackageReference: SC70-LB3; Publisher: Altium Limited; PackageDescription: 3-Lead Plastic Small Outline Transistor (LB) [SC70]; Supplier 1: Digi-Key; Supplier Part Number 1: TCM810ZVLB713TR-ND; Supplier 2: Digi-Key; Supplier Part Number 2: TCM810ZVLB713CT-ND; Supplier 3: Digi-Key; Supplier Part Number 3: TCM810ZVLB713DKR-ND; ComponentLink1Description: Datasheet; ComponentLink1URL: http://ww1.microchip.com/downloads/en/DeviceDoc/21661d.pdf; ComponentLink2Description: Packaging Specification; ComponentLink2URL: http://www.microchip.com/stellent/groups/techpub_sg/documents/packagingspec/en012702.pdf; ComponentLink3Description: Microchip.com Home; ComponentLink3URL: http://www.microchip.com/
footprint SC70-LB3_N (SOT323, 3-Leads, Body 2.0x1.3mm, Pitch 0.65mm, Lead Span 2.1mm, IPC Medium Density)
footprint SC70-LB3_L (SOT323, 3-Leads, Body 2.0x1.3mm, Pitch 0.65mm, Lead Span 2.1mm, IPC High Density)
footprint SC70-LB3_M (SOT323, 3-Leads, Body 2.0x1.3mm, Pitch 0.65mm, Lead Span 2.1mm, IPC Low Density)
pins: 1 GND (power), 2 RST (out), 3 VDD (power)